# EAGLE library part ATSAMD4S2BA-AU (library rumbleaction_parts_lib)
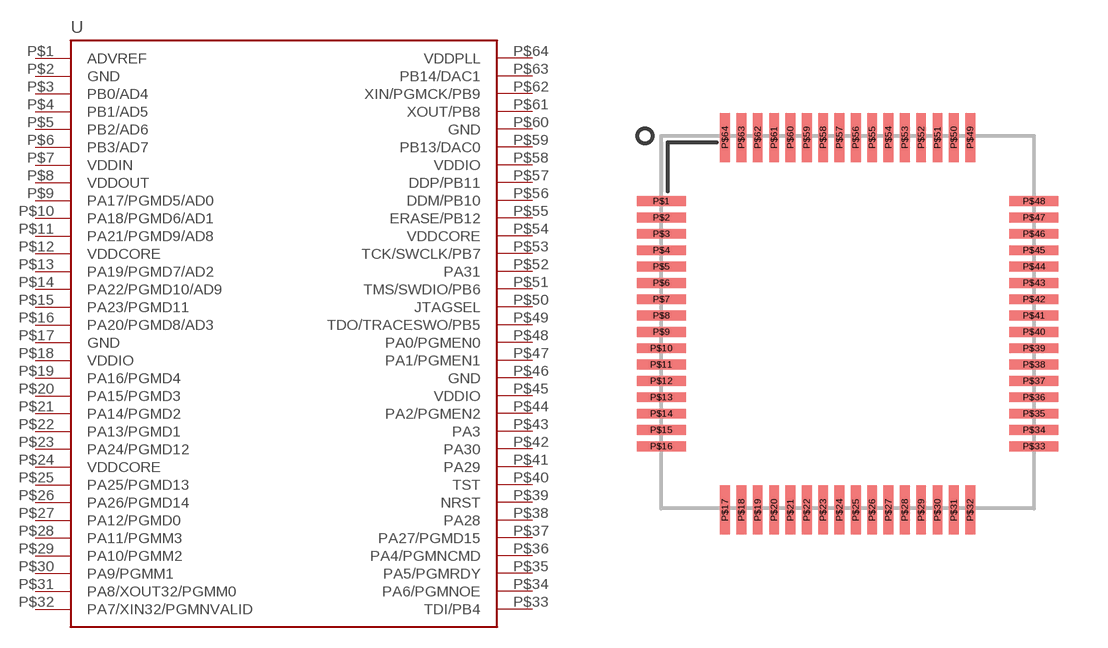
[diagram p0: symbol with the pads of ATMEL_10X10_QFP_64; footprint ATMEL_10X10_QFP_64]

Designator prefix -

## ATSAMD4S2BA-AU  [ATMEL_10X10_QFP_64]
P$1  ADVREF
P$2  GND
P$3  PB0/AD4
P$4  PB1/AD5
P$5  PB2/AD6
P$6  PB3/AD7
P$7  VDDIN
P$8  VDDOUT
P$9  PA17/PGMD5/AD0
P$10  PA18/PGMD6/AD1
P$11  PA21/PGMD9/AD8
P$12  VDDCORE
P$13  PA19/PGMD7/AD2
P$14  PA22/PGMD10/AD9
P$15  PA23/PGMD11
P$16  PA20/PGMD8/AD3
P$17  GND
P$18  VDDIO
P$19  PA16/PGMD4
P$20  PA15/PGMD3
P$21  PA14/PGMD2
P$22  PA13/PGMD1
P$23  PA24/PGMD12
P$24  VDDCORE
P$25  PA25/PGMD13
P$26  PA26/PGMD14
P$27  PA12/PGMD0
P$28  PA11/PGMM3
P$29  PA10/PGMM2
P$30  PA9/PGMM1
P$31  PA8/XOUT32/PGMM0
P$32  PA7/XIN32/PGMNVALID
P$33  TDI/PB4
P$34  PA6/PGMNOE
P$35  PA5/PGMRDY
P$36  PA4/PGMNCMD
P$37  PA27/PGMD15
P$38  PA28
P$39  NRST
P$40  TST
P$41  PA29
P$42  PA30
P$43  PA3
P$44  PA2/PGMEN2
P$45  VDDIO
P$46  GND
P$47  PA1/PGMEN1
P$48  PA0/PGMEN0
P$49  TDO/TRACESWO/PB5
P$50  JTAGSEL
P$51  TMS/SWDIO/PB6
P$52  PA31
P$53  TCK/SWCLK/PB7
P$54  VDDCORE
P$55  ERASE/PB12
P$56  DDM/PB10
P$57  DDP/PB11
P$58  VDDIO
P$59  PB13/DAC0
P$60  GND
P$61  XOUT/PB8
P$62  XIN/PGMCK/PB9
P$63  PB14/DAC1
P$64  VDDPLL

## Footprint ATMEL_10X10_QFP_64 (pad centres in mm)
smd 1.5 x 0.3: P$1 0,0; P$2 0,-0.5; P$3 0,-1; P$4 0,-1.5; P$5 0,-2; P$6 0,-2.5; P$7 0,-3; P$8 0,-3.5; P$9 0,-4; P$10 0,-4.5; P$11 0,-5; P$12 0,-5.5; P$13 0,-6; P$14 0,-6.5; P$15 0,-7; P$16 0,-7.5; P$33 11.4,-7.5; P$34 11.4,-7; P$35 11.4,-6.5; P$36 11.4,-6; P$37 11.4,-5.5; P$38 11.4,-5; P$39 11.4,-4.5; P$40 11.4,-4; P$41 11.4,-3.5; P$42 11.4,-3; P$43 11.4,-2.5; P$44 11.4,-2; P$45 11.4,-1.5; P$46 11.4,-1; P$47 11.4,-0.5; P$48 11.4,0
smd 0.3 x 1.5: P$17 1.95,-9.45; P$18 2.45,-9.45; P$19 2.95,-9.45; P$20 3.45,-9.45; P$21 3.95,-9.45; P$22 4.45,-9.45; P$23 4.95,-9.45; P$24 5.45,-9.45; P$25 5.95,-9.45; P$26 6.45,-9.45; P$27 6.95,-9.45; P$28 7.45,-9.45; P$29 7.95,-9.45; P$30 8.45,-9.45; P$31 8.95,-9.45; P$32 9.45,-9.45; P$49 9.45,1.95; P$50 8.95,1.95; P$51 8.45,1.95; P$52 7.95,1.95; P$53 7.45,1.95; P$54 6.95,1.95; P$55 6.45,1.95; P$56 5.95,1.95; P$57 5.45,1.95; P$58 4.95,1.95; P$59 4.45,1.95; P$60 3.95,1.95; P$61 3.45,1.95; P$62 2.95,1.95; P$63 2.45,1.95; P$64 1.95,1.95